# Altium footprint library SWITCH_TOGGLE.PcbLib: 7 footprints
Each footprint in its own frame and in the unit in brackets; x right, y up, seen from the top. Pads: shape width x height; smd on the part's side, far side on the other; paste and mask are expansions set on the pad; w line width, h text height; cw(c..) or ccw(c..) is an arc to the next point about the centre after c.
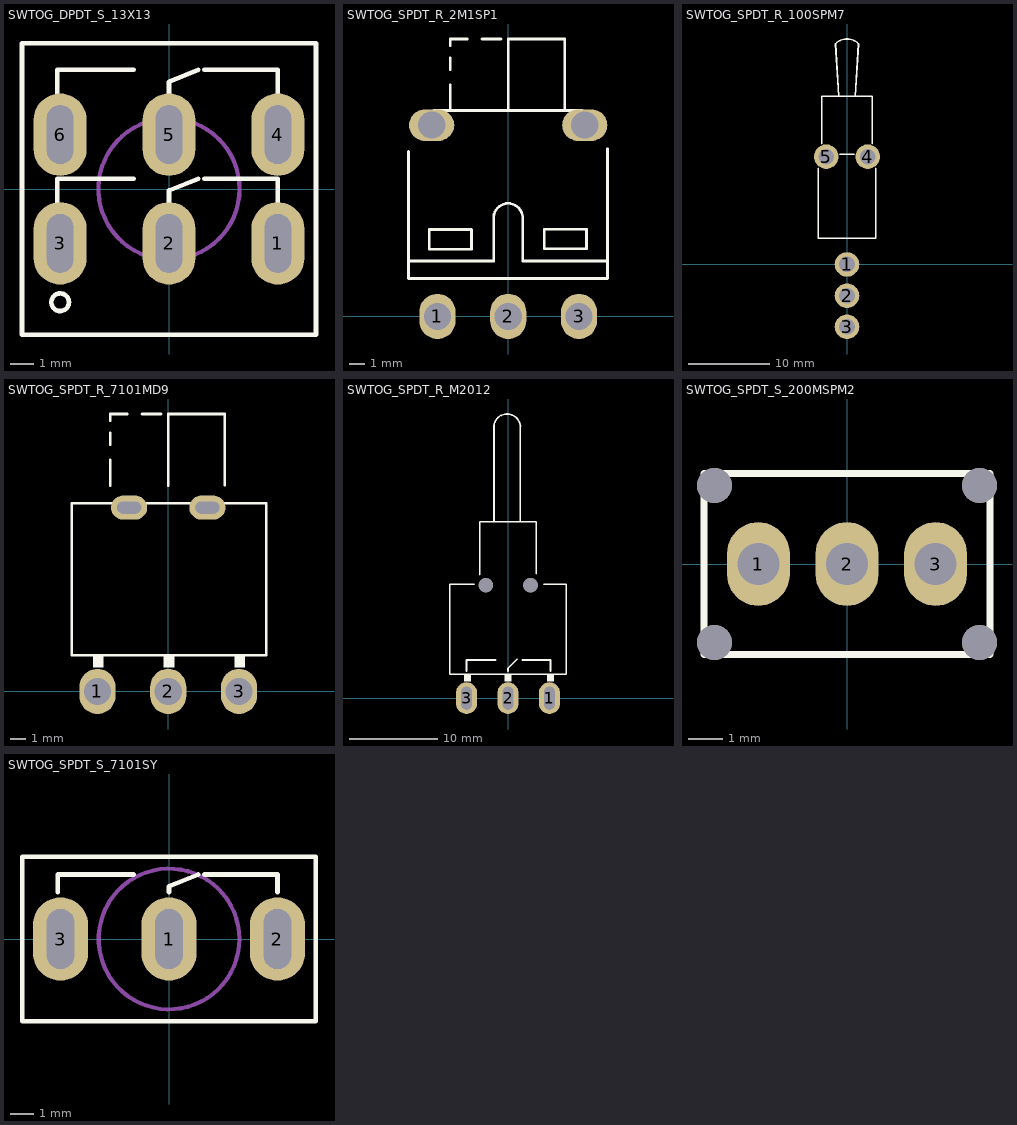
[diagram p0: the footprints below, top view; thin cyan lines are the x and y axes]

## SWTOG_DPDT_S_13X13 [mil] "Switch Toggle, DPDT, THD, Straight"
pads (6):
  oval 90x140 hole 45 slot 100 at 90 deg: 1(185,-92.5) 2(0,-92.5) 3(-185,-92.5) 4(185,92.5) 5(0,92.5) 6(-185,92.5)
Top Overlay:
  circle w7.87: c-185,-192.5 r15
  lines w7.87: -190,-27.5 -190,17.5 -60,17.5 ; -190,157.5 -190,202.5 -60,202.5 ; 0,-42.5 0,-2.5 50,17.5 ; 0,142.5 0,182.5 50,202.5 ; 60,17.5 185,17.5 185,-22.5 ; 60,202.5 185,202.5 185,162.5 ; -250,-248 -250,248 250,248 250,-248 -250,-248
Mechanical 1:
  circle w7: c0,0 r120
3D body "SWITCH DPDT.STEP": height 1121.73, standoff -100, extent -250,-246.5 250,248.5

## SWTOG_SPDT_R_2M1SP1 [mm] "Switch Toggle, 2M1-SP1-T2-B4-M6RE"
pads (5):
  oval 2.4x3 hole 1.8: 1(-4.7,0) 2(0,0) 3(4.7,0)
  oval 3x2.1 hole 1.8: " "(-5.08,12.7) " "(5.08,12.7)
Top Overlay:
  lines w0.178: -6.624,10.95 -6.624,2.515 6.594,2.515 6.594,11.121 ; -6.621,3.674 -0.966,3.674 -0.966,6.622 cw(c-0.005,6.539) 0.956,6.622 0.956,3.674 6.573,3.674 ; -4.95,13.667 4.92,13.667 ; -3.857,13.667 -3.857,15.375 ; -3.857,16.366 -3.857,17.151 ; -3.857,17.971 -3.857,18.415 -2.73,18.415 ; -1.739,18.415 -0.476,18.415 ; 0.002,13.667 0.002,18.415 3.759,18.415 3.759,13.702 ; -5.24,4.458 -5.24,5.764 -2.44,5.764 -2.44,4.458 -5.24,4.458 ; 2.397,4.481 2.397,5.787 5.196,5.787 5.196,4.481 2.397,4.481
3D body "User Library-7101MD9ABE CK switch.step": height 6.93, standoff -2.86, extent -6.35,-0.4 6.35,26.54

## SWTOG_SPDT_R_100SPM7 [mm] "Switch Toggle, SPDT RightAngle (manufacturer: E.SWITCH) 100SP1T2B4M7RE"
height 13
pads (5):
  round 3 hole 1.9: 1(0,0) 2(0,-3.81) 3(0,-7.62) 4(2.54,13.2) 5(-2.54,13.2)
Top Overlay:
  lines w0.2: -3.5,11.79 -3.5,3.19 3.5,3.19 3.5,11.79 ; -3.1,14.79 -3.1,20.59 3.1,20.59 3.1,14.79 ; -1,20.59 -1.414,27.004 cw(c0,25.59) 1.414,27.004 1,20.59 ; -0.9,13.49 0.9,13.49
3D body: height 12.7, standoff 0, extent -3.4,3.29 3.4,13.39
3D body: height 9.39, standoff 3.21, extent -3.076,13.39 3.1,20.69
3D body: height 8.79, standoff 5.02, extent -1.29,20.546 1.3,27.89

## SWTOG_SPDT_R_7101MD9 [mm] "Switch Toggle, 7101MD9ABE"
pads (5):
  oval 2.4x3 hole 1.8: 1(-4.7,0) 2(0,0) 3(4.7,0)
  oval 2.4x1.6 hole 0.8 slot 1.6 at 0 deg: " "(-2.6,12.2) " "(2.6,12.2)
Top Overlay:
  rectangle: 4.4,1.6 5.1,2.4
  rectangle: -0.3,1.6 0.4,2.4
  rectangle: -5,1.6 -4.3,2.4
  lines w0.178: -3.857,13.667 -3.857,15.375 ; -3.857,16.366 -3.857,17.151 ; -3.857,17.971 -3.857,18.415 -2.73,18.415 ; -1.739,18.415 -0.476,18.415 ; 0.002,13.667 0.002,18.415 3.759,18.415 3.759,13.702 ; -6.4,2.4 6.5,2.4 6.5,12.5 -6.4,12.5 -6.4,2.4
3D body "User Library-7101MD9ABE CK switch.step": height 6.93, standoff -2.86, extent -6.35,-0.4 6.35,26.54

## SWTOG_SPDT_R_M2012 [mm] "Switch Toggle, SPDT, THD, RightAngLe, NKK M2012SA2W30"
pads (5):
  oval 2.4x3.6 hole 1.2 slot 2.6 at 90 deg: 1(4.7,0) 2(0,0) 3(-4.7,0)
  round 1.6 hole 1.651: ""(-2.5,12.8) ""(2.549,12.8)
Top Overlay:
  rectangle: -0.4,1.9 0.4,2.7
  rectangle: -5,1.9 -4.2,2.7
  rectangle: 4.4,1.9 5.2,2.7
  lines w0.2: -4.699,3.064 -4.699,4.334 -1.397,4.334 ; -3.835,12.9 -6.6,12.9 -6.6,2.7 6.6,2.7 6.6,12.9 4.064,12.9 ; -3.2,13.995 -3.2,20 3.2,20 3.2,14.097 ; -1.6,20 -1.6,30.9 cw(c-0.1,30.7) 1.408,30.831 ; 0,3.038 0,3.394 1.016,4.41 ; 1.4,20.1 1.4,30.83 ; 1.651,4.334 4.826,4.334 4.826,3.038
3D body "SW3dPS-Switch toggle NKK M2012SA2W30.STEP": height 8.06, standoff -4.18, extent -6.502,-0.575 6.502,32.234

## SWTOG_SPDT_S_200MSPM2 [mm] "Switch Toggle, SPDT RightAngle, E.SWITCH 200MSP1T1B1M2QEH"
height 13
pads (7):
  oval 1.8x2.4 hole 1.2: 1(-2.54,0) 2(0,0) 3(2.54,0)
  round 1 hole 1 unplated: ""(-3.8,-2.25) ""(-3.8,2.25) ""(3.8,-2.25) ""(3.8,2.25)
Top Overlay:
  lines w0.2: -4.1,-2.6 4.1,-2.6 4.1,2.6 -4.1,2.6 -4.1,-2.6
3D body "User Library-200MSP1T1B1M2QEH.step": height 22.39, standoff -4.34, extent -4.065,-3 4.065,3

## SWTOG_SPDT_S_7101SY [mm] "Switch Toggle, SPDT Straight, 7X12mm, 7101SYZBE CK"
height 13
pads (3):
  oval 2.4x3.6 hole 1.2 slot 2.6 at 90 deg: 1(0,0) 2(4.699,0) 3(-4.699,0)
Top Overlay:
  lines w0.2: -4.826,2.025 -4.826,2.794 -1.524,2.794 ; 0,2.025 0,2.286 1.27,2.794 ; 1.524,2.794 4.699,2.794 4.699,2.025 ; -6.35,-3.556 -6.35,3.556 6.35,3.556 6.35,-3.556 -6.35,-3.556
Mechanical 1:
  circle w0.178: c0,0 r3.048
3D body "SWITCH SPDT.STEP": height 28.62, standoff -2.41, extent -6.35,-3.415 6.35,3.443